# Altium schematic symbol library kmilo17pet-TI_StepDown.SchLib: 565 symbols (part 10 of 33)
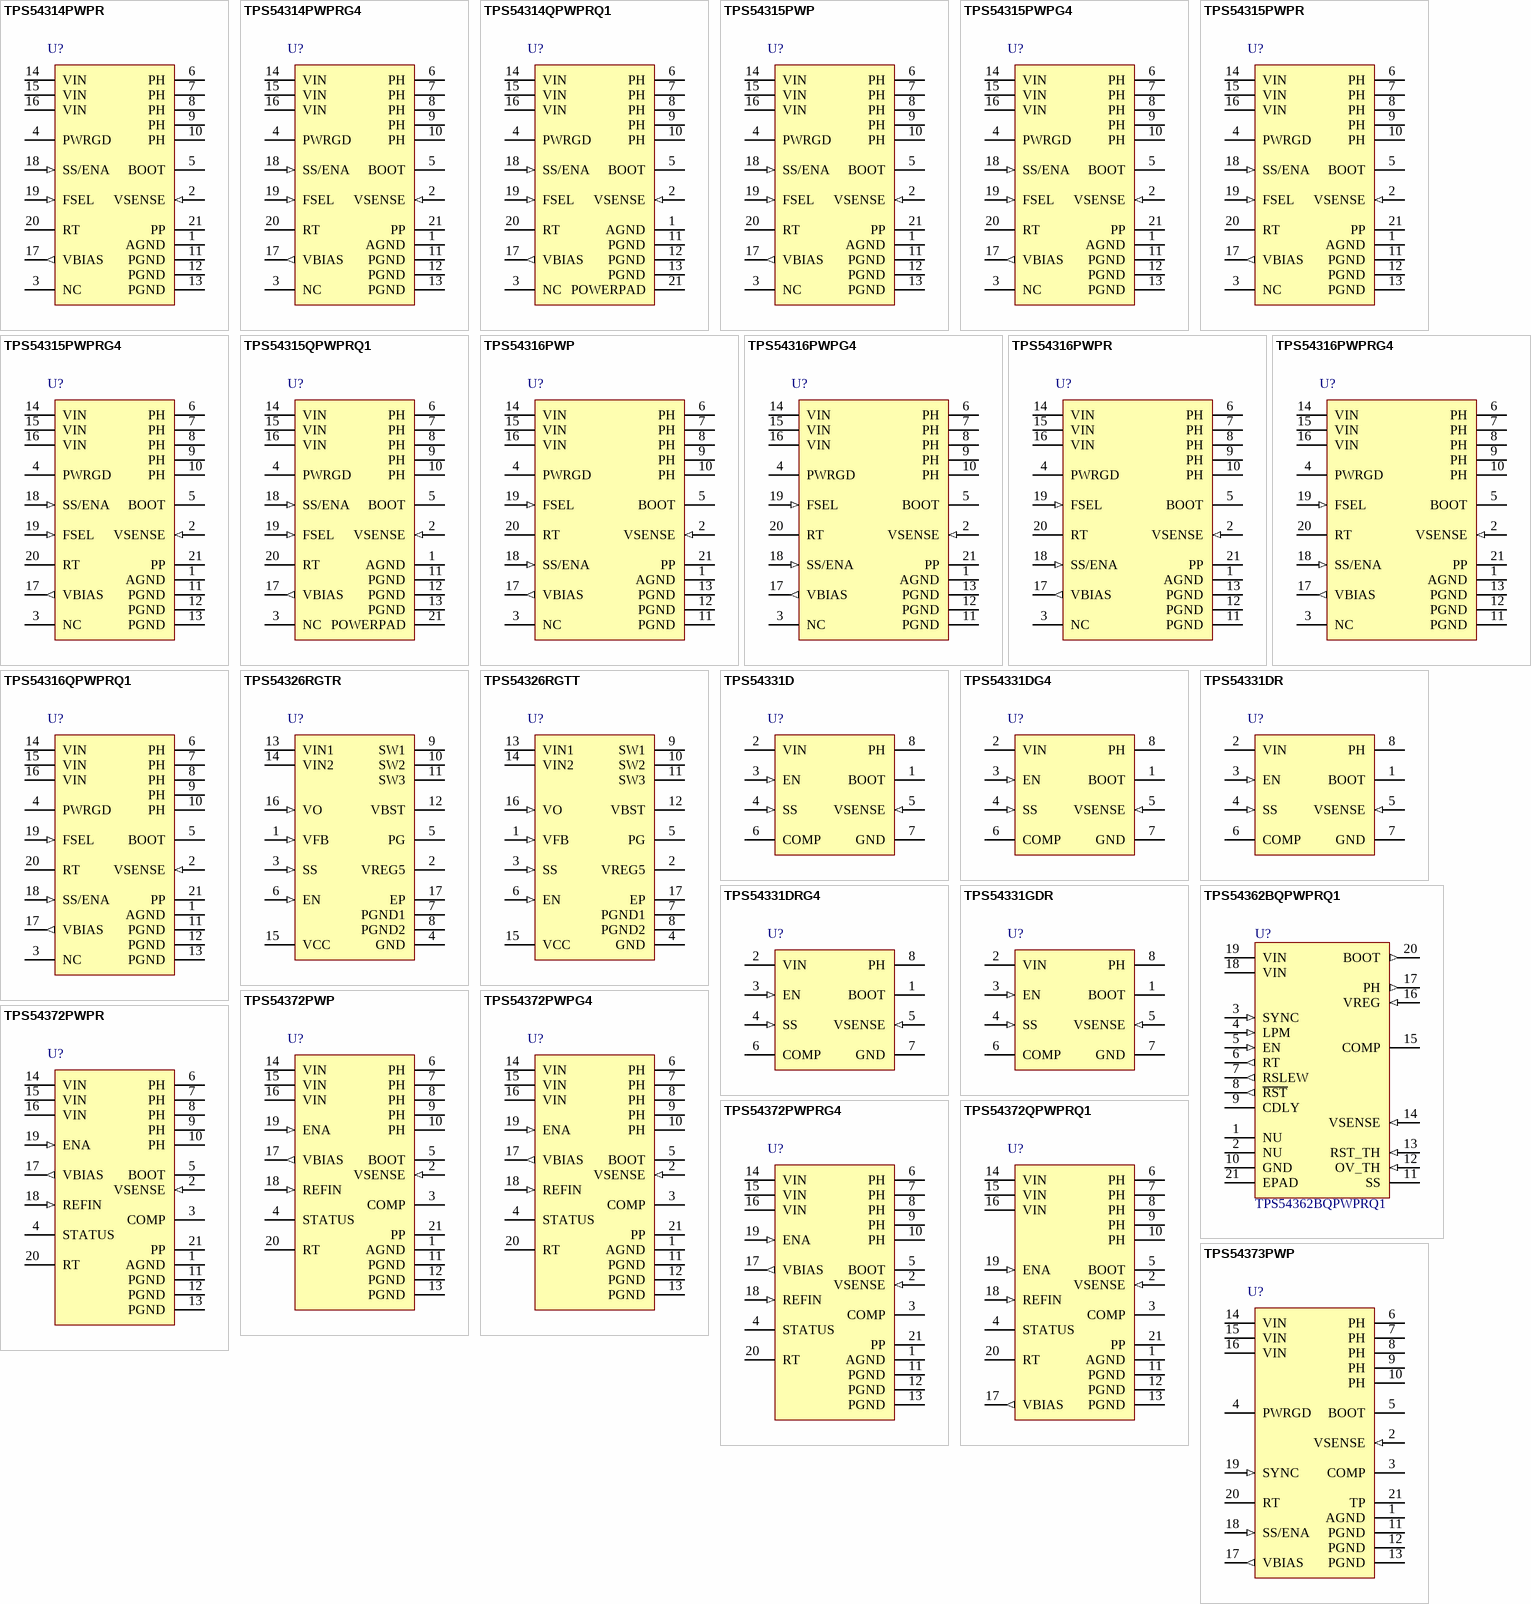
[diagram p28: symbols TPS54314PWPR to TPS54373PWP]

## TPS54326RGTR
designator U?
Buck Step Down Regulator with 4.5 to 18 V Input and 0.76 to 5.5 V Output, -40 to 85 degC, 16-Pin QFN (RGT), Green (RoHS & no Sb/Br); Manufacturer: Texas Instruments; PartNumber: TPS54326RGTR; Duty Cycle(Max)(%): 90; Iout(Max)(A): 3; Iq(Typ)(mA): 0.85; Rating: Catalog; Regulated Outputs(#): 1; SubFamily: Step-Down Regulator; Switch Current Limit(Typ)(A): 3.5; Synchronous Rectification: TRUE; Vin(Max)(V): 18; Vin(Min)(V): 4.5; Vout(Max)(V): 5.5; Vout(Min)(V): 0.76; DatasheetVersion: SLVSA13E; PackageVersion: revH, Oct-2011; PackageReference: RGT16-1700X1700TP; PackageDescription: 16-Pin Plastic Quad Flat No-Lead, 3 x 3 mm Body, 0.5 mm Pitch, 1.7 x 1.7 mm Exposed Pad; Supplier 1: Digi-Key; Supplier Part Number 1: 296-27586-2-ND; Eco-Plan: Green (RoHS & no Sb/Br); Topology: Buck; Mounting Technology: Surface Mount; Code_JEDEC: MO-220; ComponentLink1Description: Datasheet; ComponentLink1URL: http://www.ti.com/general/docs/lit/getliterature.tsp?genericPartNumber=TPS54326&fileType=pdf; ComponentLink2Description: Package Specification; ComponentLink2URL: http://www.ti.com/litv/pdf/mpqf119g; ComponentLink3Description: URL Link1; ComponentLink3URL: Samples URL:http://www.ti.com/product/tps54326#samples
footprint RGT16-1700X1700TP (QFN, 16-Leads, Body 3x3mm, Pitch 0.5mm, Thermal Pad 1.7x1.7mm, TI Recommended)
pins: 1 VFB (in) "Converter feedback input. Connect with feedback resistor divider.", 2 VREG5 (power) "5.5 V power supply output. A capacitor (typical 1uF) should be connected to GND.", 3 SS (in) "Soft-start control. A external capacitor should be connected to GND.", 4 GND (power) "Signal ground pin", 5 PG (oc) "Open drain power good output", 6 EN (in) "Enable control input", 7 PGND1 (power) "Ground returns for low-side MOSFET. Also serve as inputs of current comparators. Connect PGND and GND strongly together near the IC.", 8 PGND2 (power) "Ground returns for low-side MOSFET. Also serve as inputs of current comparators. Connect PGND and GND strongly together near the IC.", 9 SW1 (power) "Switch node connection between high-side NFET and low-side NFET. Also serve as inputs to current comparators.", 10 SW2 (power) "Switch node connection between high-side NFET and low-side NFET. Also serve as inputs to current comparators.", 11 SW3 (power) "Switch node connection between high-side NFET and low-side NFET. Also serve as inputs to current comparators.", 12 VBST "Supply input for high-side NFET gate driver (boost terminal). Connect capacitor from this pin to respective SW1, SW2 terminals. An internal PN diode is connected between VREG5 to VBST pin.", 13 VIN1 (power) "Power input and connected to high side NFET drain", 14 VIN2 (power) "Power input and connected to high side NFET drain", 15 VCC (power) "Supply input for 5 V internal linear regulator for the control circuitry", 16 VO (in) "Connect to output of converter. This pin is used for On-Time Adjustment.", 17 EP (power) "Thermal pad of the package. Must be soldered to achieve appropriate dissipation. Should be connected to PGND."

## TPS54326RGTT
designator U?
Buck Step Down Regulator with 4.5 to 18 V Input and 0.76 to 5.5 V Output, -40 to 85 degC, 16-Pin QFN (RGT), Green (RoHS & no Sb/Br); Manufacturer: Texas Instruments; PartNumber: TPS54326RGTT; Duty Cycle(Max)(%): 90; Iout(Max)(A): 3; Iq(Typ)(mA): 0.85; Rating: Catalog; Regulated Outputs(#): 1; SubFamily: Step-Down Regulator; Switch Current Limit(Typ)(A): 3.5; Synchronous Rectification: TRUE; Vin(Max)(V): 18; Vin(Min)(V): 4.5; Vout(Max)(V): 5.5; Vout(Min)(V): 0.76; DatasheetVersion: SLVSA13E; PackageVersion: revH, Oct-2011; PackageReference: RGT16-1700X1700TP; PackageDescription: 16-Pin Plastic Quad Flat No-Lead, 3 x 3 mm Body, 0.5 mm Pitch, 1.7 x 1.7 mm Exposed Pad; Supplier 1: Digi-Key; Supplier Part Number 1: TPS54326RGTT-ND; Eco-Plan: Green (RoHS & no Sb/Br); Topology: Buck; Mounting Technology: Surface Mount; Code_JEDEC: MO-220; ComponentLink1Description: Datasheet; ComponentLink1URL: http://www.ti.com/general/docs/lit/getliterature.tsp?genericPartNumber=TPS54326&fileType=pdf; ComponentLink2Description: Package Specification; ComponentLink2URL: http://www.ti.com/litv/pdf/mpqf119g; ComponentLink3Description: URL Link1; ComponentLink3URL: Samples URL:http://www.ti.com/product/tps54326#samples
footprint RGT16-1700X1700TP (QFN, 16-Leads, Body 3x3mm, Pitch 0.5mm, Thermal Pad 1.7x1.7mm, TI Recommended)
pins: 1 VFB (in) "Converter feedback input. Connect with feedback resistor divider.", 2 VREG5 (power) "5.5 V power supply output. A capacitor (typical 1uF) should be connected to GND.", 3 SS (in) "Soft-start control. A external capacitor should be connected to GND.", 4 GND (power) "Signal ground pin", 5 PG (oc) "Open drain power good output", 6 EN (in) "Enable control input", 7 PGND1 (power) "Ground returns for low-side MOSFET. Also serve as inputs of current comparators. Connect PGND and GND strongly together near the IC.", 8 PGND2 (power) "Ground returns for low-side MOSFET. Also serve as inputs of current comparators. Connect PGND and GND strongly together near the IC.", 9 SW1 (power) "Switch node connection between high-side NFET and low-side NFET. Also serve as inputs to current comparators.", 10 SW2 (power) "Switch node connection between high-side NFET and low-side NFET. Also serve as inputs to current comparators.", 11 SW3 (power) "Switch node connection between high-side NFET and low-side NFET. Also serve as inputs to current comparators.", 12 VBST "Supply input for high-side NFET gate driver (boost terminal). Connect capacitor from this pin to respective SW1, SW2 terminals. An internal PN diode is connected between VREG5 to VBST pin.", 13 VIN1 (power) "Power input and connected to high side NFET drain", 14 VIN2 (power) "Power input and connected to high side NFET drain", 15 VCC (power) "Supply input for 5 V internal linear regulator for the control circuitry", 16 VO (in) "Connect to output of converter. This pin is used for On-Time Adjustment.", 17 EP (power) "Thermal pad of the package. Must be soldered to achieve appropriate dissipation. Should be connected to PGND."

## TPS54331D
designator U?
Buck Step Down Regulator with 3.5 to 28 V Input and 0.8 to 25 V Output, -40 to 150 degC, 8-Pin SOIC (D), Green (RoHS & no Sb/Br); Manufacturer: Texas Instruments; PartNumber: TPS54331D; Duty Cycle(Max)(%): 90; Iout(Max)(A): 3; Iq(Typ)(mA): 0.11; Rating: Catalog; Regulated Outputs(#): 1; SubFamily: Step-Down Regulator; Switch Current Limit(Typ)(A): 3.5; Vin(Max)(V): 28; Vout(Max)(V): 25; Vout(Min)(V): 0.8; DatasheetVersion: SLVS839D; PackageVersion: revM, Jun-2011; PackageReference: D8; PackageDescription: 8-Pin Plastic Small Outline Integrated Circuit, 4.9 x 3.9 mm, Pitch 1.27 mm Pitch; Supplier 1: Digi-Key; Supplier Part Number 1: 296-23626-5-ND; Eco-Plan: Green (RoHS & no Sb/Br); Topology: Buck; Vin(Min)(V): 3.5; Mounting Technology: Surface Mount; Code_JEDEC: MS-012AA; ComponentLink1Description: Datasheet; ComponentLink1URL: http://www.ti.com/general/docs/lit/getliterature.tsp?genericPartNumber=TPS54331&fileType=pdf; ComponentLink2Description: Package Specification; ComponentLink2URL: http://www.ti.com/litv/pdf/msoi002j; ComponentLink3Description: URL Link1; ComponentLink3URL: Samples URL:http://www.ti.com/product/tps54331#samples
footprint D8_N (SOIC, 8-Leads, Body 4.9x3.9mm, Pitch 1.27mm, IPC Medium Density)
footprint D8_L (SOIC, 8-Leads, Body 4.9x3.9mm, Pitch 1.27mm, IPC High Density)
footprint D8_M (SOIC, 8-Leads, Body 4.9x3.9mm, Pitch 1.27mm, IPC Low Density)
pins: 1 BOOT "A 0.1 uF bootstrap capacitor is required between BOOT and PH. If the voltage on this capacitor falls below the minimum requirement, the high-side MOSFET is forced to switch off until the capacitor is refreshed", 2 VIN (power) "Input supply voltage, 3.5 V to 28 V.", 3 EN (in) "Enable pin. Pull below 1.25V to disable. Float to enable. Programming the input undervoltage lockout with two resistors is recommended.", 4 SS (in) "Slow start pin. An external capacitor connected to this pin sets the output rise time.", 5 VSENSE (in) "Inverting node of the gm error amplifier.", 6 COMP "Error amplifier output, and input to the PWM comparator. Connect frequency compensation components to this pin.", 7 GND (power) "Ground", 8 PH (power) "The source of the internal high-side power MOSFET"

## TPS54331DG4
designator U?
Buck Step Down Regulator with 3.5 to 28 V Input and 0.8 to 25 V Output, -40 to 150 degC, 8-Pin SOIC (D), Green (RoHS & no Sb/Br); Manufacturer: Texas Instruments; PartNumber: TPS54331DG4; Duty Cycle(Max)(%): 90; Iout(Max)(A): 3; Iq(Typ)(mA): 0.11; Rating: Catalog; Regulated Outputs(#): 1; SubFamily: Step-Down Regulator; Switch Current Limit(Typ)(A): 3.5; Vin(Max)(V): 28; Vout(Max)(V): 25; Vout(Min)(V): 0.8; DatasheetVersion: SLVS839D; PackageVersion: revM, Jun-2011; PackageReference: D8; PackageDescription: 8-Pin Plastic Small Outline Integrated Circuit, 4.9 x 3.9 mm, Pitch 1.27 mm Pitch; Supplier 1: Digi-Key; Supplier Part Number 1: TPS54331DG4-ND; Eco-Plan: Green (RoHS & no Sb/Br); Topology: Buck; Vin(Min)(V): 3.5; Mounting Technology: Surface Mount; Code_JEDEC: MS-012AA; ComponentLink1Description: Datasheet; ComponentLink1URL: http://www.ti.com/general/docs/lit/getliterature.tsp?genericPartNumber=TPS54331&fileType=pdf; ComponentLink2Description: Package Specification; ComponentLink2URL: http://www.ti.com/litv/pdf/msoi002j; ComponentLink3Description: URL Link1; ComponentLink3URL: Samples URL:http://www.ti.com/product/tps54331#samples
footprint D8_N (SOIC, 8-Leads, Body 4.9x3.9mm, Pitch 1.27mm, IPC Medium Density)
footprint D8_L (SOIC, 8-Leads, Body 4.9x3.9mm, Pitch 1.27mm, IPC High Density)
footprint D8_M (SOIC, 8-Leads, Body 4.9x3.9mm, Pitch 1.27mm, IPC Low Density)
pins: 1 BOOT "A 0.1 uF bootstrap capacitor is required between BOOT and PH. If the voltage on this capacitor falls below the minimum requirement, the high-side MOSFET is forced to switch off until the capacitor is refreshed", 2 VIN (power) "Input supply voltage, 3.5 V to 28 V.", 3 EN (in) "Enable pin. Pull below 1.25V to disable. Float to enable. Programming the input undervoltage lockout with two resistors is recommended.", 4 SS (in) "Slow start pin. An external capacitor connected to this pin sets the output rise time.", 5 VSENSE (in) "Inverting node of the gm error amplifier.", 6 COMP "Error amplifier output, and input to the PWM comparator. Connect frequency compensation components to this pin.", 7 GND (power) "Ground", 8 PH (power) "The source of the internal high-side power MOSFET"

## TPS54331DR
designator U?
Buck Step Down Regulator with 3.5 to 28 V Input and 0.8 to 25 V Output, -40 to 150 degC, 8-Pin SOIC (D), Green (RoHS & no Sb/Br); Manufacturer: Texas Instruments; PartNumber: TPS54331DR; Duty Cycle(Max)(%): 90; Iout(Max)(A): 3; Iq(Typ)(mA): 0.11; Rating: Catalog; Regulated Outputs(#): 1; SubFamily: Step-Down Regulator; Switch Current Limit(Typ)(A): 3.5; Vin(Max)(V): 28; Vout(Max)(V): 25; Vout(Min)(V): 0.8; DatasheetVersion: SLVS839D; PackageVersion: revM, Jun-2011; PackageReference: D8; PackageDescription: 8-Pin Plastic Small Outline Integrated Circuit, 4.9 x 3.9 mm, Pitch 1.27 mm Pitch; Supplier 1: Digi-Key; Supplier Part Number 1: 296-26991-2-ND; Eco-Plan: Green (RoHS & no Sb/Br); Topology: Buck; Vin(Min)(V): 3.5; Mounting Technology: Surface Mount; Code_JEDEC: MS-012AA; ComponentLink1Description: Datasheet; ComponentLink1URL: http://www.ti.com/general/docs/lit/getliterature.tsp?genericPartNumber=TPS54331&fileType=pdf; ComponentLink2Description: Package Specification; ComponentLink2URL: http://www.ti.com/litv/pdf/msoi002j; ComponentLink3Description: URL Link1; ComponentLink3URL: Samples URL:http://www.ti.com/product/tps54331#samples
footprint D8_N (SOIC, 8-Leads, Body 4.9x3.9mm, Pitch 1.27mm, IPC Medium Density)
footprint D8_L (SOIC, 8-Leads, Body 4.9x3.9mm, Pitch 1.27mm, IPC High Density)
footprint D8_M (SOIC, 8-Leads, Body 4.9x3.9mm, Pitch 1.27mm, IPC Low Density)
pins: 1 BOOT "A 0.1 uF bootstrap capacitor is required between BOOT and PH. If the voltage on this capacitor falls below the minimum requirement, the high-side MOSFET is forced to switch off until the capacitor is refreshed", 2 VIN (power) "Input supply voltage, 3.5 V to 28 V.", 3 EN (in) "Enable pin. Pull below 1.25V to disable. Float to enable. Programming the input undervoltage lockout with two resistors is recommended.", 4 SS (in) "Slow start pin. An external capacitor connected to this pin sets the output rise time.", 5 VSENSE (in) "Inverting node of the gm error amplifier.", 6 COMP "Error amplifier output, and input to the PWM comparator. Connect frequency compensation components to this pin.", 7 GND (power) "Ground", 8 PH (power) "The source of the internal high-side power MOSFET"

## TPS54331DRG4
designator U?
Buck Step Down Regulator with 3.5 to 28 V Input and 0.8 to 25 V Output, -40 to 150 degC, 8-Pin SOIC (D), Green (RoHS & no Sb/Br); Manufacturer: Texas Instruments; PartNumber: TPS54331DRG4; Duty Cycle(Max)(%): 90; Iout(Max)(A): 3; Iq(Typ)(mA): 0.11; Rating: Catalog; Regulated Outputs(#): 1; SubFamily: Step-Down Regulator; Switch Current Limit(Typ)(A): 3.5; Vin(Max)(V): 28; Vout(Max)(V): 25; Vout(Min)(V): 0.8; DatasheetVersion: SLVS839D; PackageVersion: revM, Jun-2011; PackageReference: D8; PackageDescription: 8-Pin Plastic Small Outline Integrated Circuit, 4.9 x 3.9 mm, Pitch 1.27 mm Pitch; Supplier 1: Digi-Key; Supplier Part Number 1: TPS54331DRG4-ND; Eco-Plan: Green (RoHS & no Sb/Br); Topology: Buck; Vin(Min)(V): 3.5; Mounting Technology: Surface Mount; Code_JEDEC: MS-012AA; ComponentLink1Description: Datasheet; ComponentLink1URL: http://www.ti.com/general/docs/lit/getliterature.tsp?genericPartNumber=TPS54331&fileType=pdf; ComponentLink2Description: Package Specification; ComponentLink2URL: http://www.ti.com/litv/pdf/msoi002j; ComponentLink3Description: URL Link1; ComponentLink3URL: Samples URL:http://www.ti.com/product/tps54331#samples
footprint D8_N (SOIC, 8-Leads, Body 4.9x3.9mm, Pitch 1.27mm, IPC Medium Density)
footprint D8_L (SOIC, 8-Leads, Body 4.9x3.9mm, Pitch 1.27mm, IPC High Density)
footprint D8_M (SOIC, 8-Leads, Body 4.9x3.9mm, Pitch 1.27mm, IPC Low Density)
pins: 1 BOOT "A 0.1 uF bootstrap capacitor is required between BOOT and PH. If the voltage on this capacitor falls below the minimum requirement, the high-side MOSFET is forced to switch off until the capacitor is refreshed", 2 VIN (power) "Input supply voltage, 3.5 V to 28 V.", 3 EN (in) "Enable pin. Pull below 1.25V to disable. Float to enable. Programming the input undervoltage lockout with two resistors is recommended.", 4 SS (in) "Slow start pin. An external capacitor connected to this pin sets the output rise time.", 5 VSENSE (in) "Inverting node of the gm error amplifier.", 6 COMP "Error amplifier output, and input to the PWM comparator. Connect frequency compensation components to this pin.", 7 GND (power) "Ground", 8 PH (power) "The source of the internal high-side power MOSFET"

## TPS54331GDR
designator U?
Buck Step Down Regulator with 3.5 to 28 V Input and 0.8 to 25 V Output, 8-Pin SOIC (D), Green (RoHS & no Sb/Br); Manufacturer: Texas Instruments; PartNumber: TPS54331GDR; Duty Cycle(Max)(%): 90; Iout(Max)(A): 3; Iq(Typ)(mA): 0.11; Rating: Catalog; Regulated Outputs(#): 1; SubFamily: Step-Down Regulator; Switch Current Limit(Typ)(A): 3.5; Vin(Max)(V): 28; Vout(Max)(V): 25; Vout(Min)(V): 0.8; DatasheetVersion: SLVS839D; PackageVersion: revM, Jun-2011; PackageReference: D8; PackageDescription: 8-Pin Plastic Small Outline Integrated Circuit, 4.9 x 3.9 mm, Pitch 1.27 mm Pitch; Supplier 1: Digi-Key; Supplier Part Number 1: TPS54331GDR-ND; Eco-Plan: Green (RoHS & no Sb/Br); Topology: Buck; Vin(Min)(V): 3.5; Mounting Technology: Surface Mount; Code_JEDEC: MS-012AA; ComponentLink1Description: Datasheet; ComponentLink1URL: http://www.ti.com/general/docs/lit/getliterature.tsp?genericPartNumber=TPS54331&fileType=pdf; ComponentLink2Description: Package Specification; ComponentLink2URL: http://www.ti.com/litv/pdf/msoi002j; ComponentLink3Description: URL Link1; ComponentLink3URL: Samples URL:http://www.ti.com/product/tps54331#samples
footprint D8_N (SOIC, 8-Leads, Body 4.9x3.9mm, Pitch 1.27mm, IPC Medium Density)
footprint D8_L (SOIC, 8-Leads, Body 4.9x3.9mm, Pitch 1.27mm, IPC High Density)
footprint D8_M (SOIC, 8-Leads, Body 4.9x3.9mm, Pitch 1.27mm, IPC Low Density)
pins: 1 BOOT "A 0.1 uF bootstrap capacitor is required between BOOT and PH. If the voltage on this capacitor falls below the minimum requirement, the high-side MOSFET is forced to switch off until the capacitor is refreshed", 2 VIN (power) "Input supply voltage, 3.5 V to 28 V.", 3 EN (in) "Enable pin. Pull below 1.25V to disable. Float to enable. Programming the input undervoltage lockout with two resistors is recommended.", 4 SS (in) "Slow start pin. An external capacitor connected to this pin sets the output rise time.", 5 VSENSE (in) "Inverting node of the gm error amplifier.", 6 COMP "Error amplifier output, and input to the PWM comparator. Connect frequency compensation components to this pin.", 7 GND (power) "Ground", 8 PH (power) "The source of the internal high-side power MOSFET"

## TPS54362BQPWPRQ1
designator U?
IC REG BUCK ADJ 3A 20HTSSOP; Manufacturer: Texas Instruments; Function: Step-Down; Output Configuration: Positive; Output Type: Adjustable; Number of Outputs: 1; Voltage - Input (Min): 3.6V; Voltage - Input (Max): 48V; Voltage - Output (Min/Fixed): 0.9V; Voltage - Output (Max): 18V; Frequency - Switching: 200kHz ~ 2.2MHz; Synchronous Rectifier: No; Supplier 1: Digi-Key; Manufacturer Part Number: TPS54362BQPWPRQ1; RoHS: RoHS Compliant; Category: Integrated Circuits (ICs); Stock 1: 2616; Pricing 1: 1=4.86, 10=4.368, 100=3.5791, 500=3.04686, 1000=2.56964 (USD); Packaging: Cut Tape (CT); Part Status: Active; Topology: Buck; Current - Output: 3A; Operating Temperature: -40°C ~ 150°C (TJ); Mounting Type: Surface Mount; Package / Case: 20-PowerTSSOP (0.173", 4.40mm Width); Supplier Device Package: 20-HTSSOP; ComponentLink1URL: http://www.ti.com/lit/ds/symlink/tps54362-q1.pdf; ComponentLink1Description: http://www.ti.com/lit/ds/symlink/tps54362-q1.pdf; Value: TPS54362BQPWPRQ1; Supplier Part Number 1: 296-40795-1-ND
footprint HTSSOP20 (TSOP, 20-Leads, Body 6.50x4.40mm, Pitch 0.65mm, Thermal Pad 3.20x2.45mm, IPC High Density)
pins: 1 NU, 2 NU, 3 SYNC (in), 4 LPM (in), 5 EN (in), 6 RT (out), 7 RSLEW (out), 8 ~{RST} (out), 9 CDLY, 10 GND, 11 SS, 12 OV_TH (in), 13 RST_TH (in), 14 VSENSE (in), 15 COMP, 16 VREG (in), 17 PH (out), 18 VIN, 19 VIN, 20 BOOT (out), 21 EPAD

## TPS54372PWP
designator U?
Buck Regulator with 3 to 6 V Input and 0.2 to 4.5 V Output, -40 to 85 degC, 20-Pin HTSSOP (PWP), Green (RoHS & no Sb/Br); Manufacturer: Texas Instruments; PartNumber: TPS54372PWP; Duty Cycle(Max)(%): 90; Iout(Max)(A): 3; Iq(Typ)(mA): 6.2; Rating: Catalog; Regulated Outputs(#): 1; SubFamily: Step-Down Regulator; Switch Current Limit(Typ)(A): 4; Synchronous Rectification: TRUE; Vin(Max)(V): 6; Vout(Max)(V): 4.5; Vout(Min)(V): 0.2; DatasheetVersion: SLVS430D; PackageVersion: revI, May-2011; PackageReference: PWP20-3005X2005TP; PackageDescription: 20-Pin PowerPAD Plastic Small Outline 6.5 x 4.4 mm Body ,0.65 mm Pitch, Exposed Pad; Supplier 1: Digi-Key; Supplier Part Number 1: 296-13055-5-ND; Eco-Plan: Green (RoHS & no Sb/Br); Topology: Buck; Vin(Min)(V): 3; Mounting Technology: Surface Mount; Code_JEDEC: MO-153; ComponentLink1Description: Datasheet; ComponentLink1URL: http://www.ti.com/general/docs/lit/getliterature.tsp?genericPartNumber=TPS54372&fileType=pdf; ComponentLink2Description: Package Specification; ComponentLink2URL: http://www.ti.com/lit/ml/mhts001g/mhts001g.pdf; ComponentLink3Description: URL Link1; ComponentLink3URL: Samples URL:http://www.ti.com/product/tps54372#samples
footprint PWP20-3005X2005TP_N (TSOP, 20-Leads, Body 6.5x4.4mm, Pitch 0.65mm, Thermal Pad 3.7x2.4 mm, IPC Medium Density)
footprint PWP20-3005X2005TP_L (TSOP, 20-Leads, Body 6.5x4.4mm, Pitch 0.65mm, Thermal Pad 3.7x2.4 mm, IPC High Density)
footprint PWP20-3005X2005TP_M (TSOP, 20-Leads, Body 6.5x4.4mm, Pitch 0.65mm, Thermal Pad 3.7x2.4 mm, IPC Low Density)
pins: 1 AGND (power) "Analog ground. Return for compensation network/output divider, slow-start capacitor, VBIAS capacitor, and RT resistor. Connect PowerPAD connection to AGND.", 2 VSENSE (in) "Error amplifier inverting input. Connect to output voltage compensation network/output divider.", 3 COMP "Error amplifier output. Connect frequency compensation network from COMP to VSENSE", 4 STATUS (hiz) "Open-drain output. Asserted low when VIN < UVLO, VBIAS and internal reference are not settled or the internal shutdown signal is active. Otherwise STATUS is high.", 5 BOOT "Bootstrap output. 0.022-uF to 0.1-uF low-ESR capacitor connected from BOOT to PH generates floating drive for the high-side FET driver.", 6 PH (power) "Phase input/output. Junction of the internal high-side and low-side power MOSFETs, and output inductor.", 7 PH (power) "Phase input/output. Junction of the internal high-side and low-side power MOSFETs, and output inductor.", 8 PH (power) "Phase input/output. Junction of the internal high-side and low-side power MOSFETs, and output inductor.", 9 PH (power) "Phase input/output. Junction of the internal high-side and low-side power MOSFETs, and output inductor.", 10 PH (power) "Phase input/output. Junction of the internal high-side and low-side power MOSFETs, and output inductor.", 11 PGND (power) "Power ground. High current return for the low-side driver and power MOSFET. Connect PGND with large copper areas to the input and output supply returns, and negative terminals of the input and output capacitors. A (See Datasheet)", 12 PGND (power) "Power ground. High current return for the low-side driver and power MOSFET. Connect PGND with large copper areas to the input and output supply returns, and negative terminals of the input and output capacitors. A (See Datasheet)", 13 PGND (power) "Power ground. High current return for the low-side driver and power MOSFET. Connect PGND with large copper areas to the input and output supply returns, and negative terminals of the input and output capacitors. A (See Datasheet)", 14 VIN (power) "Input supply for the power MOSFET switches and internal bias regulator. Bypass VIN pins to PGND pins close to device package with a high-quality, low-ESR 10-uF ceramic capacitor.", 15 VIN (power) "Input supply for the power MOSFET switches and internal bias regulator. Bypass VIN pins to PGND pins close to device package with a high-quality, low-ESR 10-uF ceramic capacitor.", 16 VIN (power) "Input supply for the power MOSFET switches and internal bias regulator. Bypass VIN pins to PGND pins close to device package with a high-quality, low-ESR 10-uF ceramic capacitor.", 17 VBIAS (out) "Internal bias regulator output. Supplies regulated voltage to internal circuitry. Bypass VBIAS pin to AGND pin with a high quality, low-ESR 0.1-uF to 1.0-uF ceramic capacitor.", 18 REFIN (in) "External reference input. High impedance input to slow-start and error amplifier circuits.", 19 ENA (in) "Enable input. Logic high enables oscillator, PWM control and MOSFET driver circuits. Logic low disables operation and places device in a low quiescent current state.", 20 RT "Frequency setting resistor input. Connect a resistor from RT to AGND to set the switching frequency, fs.", 21 PP (power) "Exposed Thermal Pad"

## TPS54372PWPG4
designator U?
Buck Regulator with 3 to 6 V Input and 0.2 to 4.5 V Output, -40 to 85 degC, 20-Pin HTSSOP (PWP), Green (RoHS & no Sb/Br); Manufacturer: Texas Instruments; PartNumber: TPS54372PWPG4; Duty Cycle(Max)(%): 90; Iout(Max)(A): 3; Iq(Typ)(mA): 6.2; Rating: Catalog; Regulated Outputs(#): 1; SubFamily: Step-Down Regulator; Switch Current Limit(Typ)(A): 4; Synchronous Rectification: TRUE; Vin(Max)(V): 6; Vout(Max)(V): 4.5; Vout(Min)(V): 0.2; DatasheetVersion: SLVS430D; PackageVersion: revI, May-2011; PackageReference: PWP20-3005X2005TP; PackageDescription: 20-Pin PowerPAD Plastic Small Outline 6.5 x 4.4 mm Body ,0.65 mm Pitch, Exposed Pad; Supplier 1: Digi-Key; Supplier Part Number 1: TPS54372PWPG4-ND; Eco-Plan: Green (RoHS & no Sb/Br); Topology: Buck; Vin(Min)(V): 3; Mounting Technology: Surface Mount; Code_JEDEC: MO-153; ComponentLink1Description: Datasheet; ComponentLink1URL: http://www.ti.com/general/docs/lit/getliterature.tsp?genericPartNumber=TPS54372&fileType=pdf; ComponentLink2Description: Package Specification; ComponentLink2URL: http://www.ti.com/lit/ml/mhts001g/mhts001g.pdf; ComponentLink3Description: URL Link1; ComponentLink3URL: Samples URL:http://www.ti.com/product/tps54372#samples
footprint PWP20-3005X2005TP_N (TSOP, 20-Leads, Body 6.5x4.4mm, Pitch 0.65mm, Thermal Pad 3.7x2.4 mm, IPC Medium Density)
footprint PWP20-3005X2005TP_L (TSOP, 20-Leads, Body 6.5x4.4mm, Pitch 0.65mm, Thermal Pad 3.7x2.4 mm, IPC High Density)
footprint PWP20-3005X2005TP_M (TSOP, 20-Leads, Body 6.5x4.4mm, Pitch 0.65mm, Thermal Pad 3.7x2.4 mm, IPC Low Density)
pins: 1 AGND (power) "Analog ground. Return for compensation network/output divider, slow-start capacitor, VBIAS capacitor, and RT resistor. Connect PowerPAD connection to AGND.", 2 VSENSE (in) "Error amplifier inverting input. Connect to output voltage compensation network/output divider.", 3 COMP "Error amplifier output. Connect frequency compensation network from COMP to VSENSE", 4 STATUS (hiz) "Open-drain output. Asserted low when VIN < UVLO, VBIAS and internal reference are not settled or the internal shutdown signal is active. Otherwise STATUS is high.", 5 BOOT "Bootstrap output. 0.022-uF to 0.1-uF low-ESR capacitor connected from BOOT to PH generates floating drive for the high-side FET driver.", 6 PH (power) "Phase input/output. Junction of the internal high-side and low-side power MOSFETs, and output inductor.", 7 PH (power) "Phase input/output. Junction of the internal high-side and low-side power MOSFETs, and output inductor.", 8 PH (power) "Phase input/output. Junction of the internal high-side and low-side power MOSFETs, and output inductor.", 9 PH (power) "Phase input/output. Junction of the internal high-side and low-side power MOSFETs, and output inductor.", 10 PH (power) "Phase input/output. Junction of the internal high-side and low-side power MOSFETs, and output inductor.", 11 PGND (power) "Power ground. High current return for the low-side driver and power MOSFET. Connect PGND with large copper areas to the input and output supply returns, and negative terminals of the input and output capacitors. A (See Datasheet)", 12 PGND (power) "Power ground. High current return for the low-side driver and power MOSFET. Connect PGND with large copper areas to the input and output supply returns, and negative terminals of the input and output capacitors. A (See Datasheet)", 13 PGND (power) "Power ground. High current return for the low-side driver and power MOSFET. Connect PGND with large copper areas to the input and output supply returns, and negative terminals of the input and output capacitors. A (See Datasheet)", 14 VIN (power) "Input supply for the power MOSFET switches and internal bias regulator. Bypass VIN pins to PGND pins close to device package with a high-quality, low-ESR 10-uF ceramic capacitor.", 15 VIN (power) "Input supply for the power MOSFET switches and internal bias regulator. Bypass VIN pins to PGND pins close to device package with a high-quality, low-ESR 10-uF ceramic capacitor.", 16 VIN (power) "Input supply for the power MOSFET switches and internal bias regulator. Bypass VIN pins to PGND pins close to device package with a high-quality, low-ESR 10-uF ceramic capacitor.", 17 VBIAS (out) "Internal bias regulator output. Supplies regulated voltage to internal circuitry. Bypass VBIAS pin to AGND pin with a high quality, low-ESR 0.1-uF to 1.0-uF ceramic capacitor.", 18 REFIN (in) "External reference input. High impedance input to slow-start and error amplifier circuits.", 19 ENA (in) "Enable input. Logic high enables oscillator, PWM control and MOSFET driver circuits. Logic low disables operation and places device in a low quiescent current state.", 20 RT "Frequency setting resistor input. Connect a resistor from RT to AGND to set the switching frequency, fs.", 21 PP (power) "Exposed Thermal Pad"

## TPS54372PWPR
designator U?
Buck Regulator with 3 to 6 V Input and 0.2 to 4.5 V Output, -40 to 85 degC, 20-Pin HTSSOP (PWP), Green (RoHS & no Sb/Br); Manufacturer: Texas Instruments; PartNumber: TPS54372PWPR; Duty Cycle(Max)(%): 90; Iout(Max)(A): 3; Iq(Typ)(mA): 6.2; Rating: Catalog; Regulated Outputs(#): 1; SubFamily: Step-Down Regulator; Switch Current Limit(Typ)(A): 4; Synchronous Rectification: TRUE; Vin(Max)(V): 6; Vout(Max)(V): 4.5; Vout(Min)(V): 0.2; DatasheetVersion: SLVS430D; PackageVersion: revI, May-2011; PackageReference: PWP20-3005X2005TP; PackageDescription: 20-Pin PowerPAD Plastic Small Outline 6.5 x 4.4 mm Body ,0.65 mm Pitch, Exposed Pad; Supplier 1: Digi-Key; Supplier Part Number 1: 296-26993-2-ND; Eco-Plan: Green (RoHS & no Sb/Br); Topology: Buck; Vin(Min)(V): 3; Mounting Technology: Surface Mount; Code_JEDEC: MO-153; ComponentLink1Description: Datasheet; ComponentLink1URL: http://www.ti.com/general/docs/lit/getliterature.tsp?genericPartNumber=TPS54372&fileType=pdf; ComponentLink2Description: Package Specification; ComponentLink2URL: http://www.ti.com/lit/ml/mhts001g/mhts001g.pdf; ComponentLink3Description: URL Link1; ComponentLink3URL: Samples URL:http://www.ti.com/product/tps54372#samples
footprint PWP20-3005X2005TP_N (TSOP, 20-Leads, Body 6.5x4.4mm, Pitch 0.65mm, Thermal Pad 3.7x2.4 mm, IPC Medium Density)
footprint PWP20-3005X2005TP_L (TSOP, 20-Leads, Body 6.5x4.4mm, Pitch 0.65mm, Thermal Pad 3.7x2.4 mm, IPC High Density)
footprint PWP20-3005X2005TP_M (TSOP, 20-Leads, Body 6.5x4.4mm, Pitch 0.65mm, Thermal Pad 3.7x2.4 mm, IPC Low Density)
pins: 1 AGND (power) "Analog ground. Return for compensation network/output divider, slow-start capacitor, VBIAS capacitor, and RT resistor. Connect PowerPAD connection to AGND.", 2 VSENSE (in) "Error amplifier inverting input. Connect to output voltage compensation network/output divider.", 3 COMP "Error amplifier output. Connect frequency compensation network from COMP to VSENSE", 4 STATUS (hiz) "Open-drain output. Asserted low when VIN < UVLO, VBIAS and internal reference are not settled or the internal shutdown signal is active. Otherwise STATUS is high.", 5 BOOT "Bootstrap output. 0.022-uF to 0.1-uF low-ESR capacitor connected from BOOT to PH generates floating drive for the high-side FET driver.", 6 PH (power) "Phase input/output. Junction of the internal high-side and low-side power MOSFETs, and output inductor.", 7 PH (power) "Phase input/output. Junction of the internal high-side and low-side power MOSFETs, and output inductor.", 8 PH (power) "Phase input/output. Junction of the internal high-side and low-side power MOSFETs, and output inductor.", 9 PH (power) "Phase input/output. Junction of the internal high-side and low-side power MOSFETs, and output inductor.", 10 PH (power) "Phase input/output. Junction of the internal high-side and low-side power MOSFETs, and output inductor.", 11 PGND (power) "Power ground. High current return for the low-side driver and power MOSFET. Connect PGND with large copper areas to the input and output supply returns, and negative terminals of the input and output capacitors. A (See Datasheet)", 12 PGND (power) "Power ground. High current return for the low-side driver and power MOSFET. Connect PGND with large copper areas to the input and output supply returns, and negative terminals of the input and output capacitors. A (See Datasheet)", 13 PGND (power) "Power ground. High current return for the low-side driver and power MOSFET. Connect PGND with large copper areas to the input and output supply returns, and negative terminals of the input and output capacitors. A (See Datasheet)", 14 VIN (power) "Input supply for the power MOSFET switches and internal bias regulator. Bypass VIN pins to PGND pins close to device package with a high-quality, low-ESR 10-uF ceramic capacitor.", 15 VIN (power) "Input supply for the power MOSFET switches and internal bias regulator. Bypass VIN pins to PGND pins close to device package with a high-quality, low-ESR 10-uF ceramic capacitor.", 16 VIN (power) "Input supply for the power MOSFET switches and internal bias regulator. Bypass VIN pins to PGND pins close to device package with a high-quality, low-ESR 10-uF ceramic capacitor.", 17 VBIAS (out) "Internal bias regulator output. Supplies regulated voltage to internal circuitry. Bypass VBIAS pin to AGND pin with a high quality, low-ESR 0.1-uF to 1.0-uF ceramic capacitor.", 18 REFIN (in) "External reference input. High impedance input to slow-start and error amplifier circuits.", 19 ENA (in) "Enable input. Logic high enables oscillator, PWM control and MOSFET driver circuits. Logic low disables operation and places device in a low quiescent current state.", 20 RT "Frequency setting resistor input. Connect a resistor from RT to AGND to set the switching frequency, fs.", 21 PP (power) "Exposed Thermal Pad"

## TPS54372PWPRG4
designator U?
Buck Regulator with 3 to 6 V Input and 0.2 to 4.5 V Output, -40 to 85 degC, 20-Pin HTSSOP (PWP), Green (RoHS & no Sb/Br); Manufacturer: Texas Instruments; PartNumber: TPS54372PWPRG4; Duty Cycle(Max)(%): 90; Iout(Max)(A): 3; Iq(Typ)(mA): 6.2; Rating: Catalog; Regulated Outputs(#): 1; SubFamily: Step-Down Regulator; Switch Current Limit(Typ)(A): 4; Synchronous Rectification: TRUE; Vin(Max)(V): 6; Vout(Max)(V): 4.5; Vout(Min)(V): 0.2; DatasheetVersion: SLVS430D; PackageVersion: revI, May-2011; PackageReference: PWP20-3005X2005TP; PackageDescription: 20-Pin PowerPAD Plastic Small Outline 6.5 x 4.4 mm Body ,0.65 mm Pitch, Exposed Pad; Supplier 1: Digi-Key; Supplier Part Number 1: TPS54372PWPRG4-ND; Eco-Plan: Green (RoHS & no Sb/Br); Topology: Buck; Vin(Min)(V): 3; Mounting Technology: Surface Mount; Code_JEDEC: MO-153; ComponentLink1Description: Datasheet; ComponentLink1URL: http://www.ti.com/general/docs/lit/getliterature.tsp?genericPartNumber=TPS54372&fileType=pdf; ComponentLink2Description: Package Specification; ComponentLink2URL: http://www.ti.com/lit/ml/mhts001g/mhts001g.pdf; ComponentLink3Description: URL Link1; ComponentLink3URL: Samples URL:http://www.ti.com/product/tps54611#samples
footprint PWP20-3005X2005TP_N (TSOP, 20-Leads, Body 6.5x4.4mm, Pitch 0.65mm, Thermal Pad 3.7x2.4 mm, IPC Medium Density)
footprint PWP20-3005X2005TP_L (TSOP, 20-Leads, Body 6.5x4.4mm, Pitch 0.65mm, Thermal Pad 3.7x2.4 mm, IPC High Density)
footprint PWP20-3005X2005TP_M (TSOP, 20-Leads, Body 6.5x4.4mm, Pitch 0.65mm, Thermal Pad 3.7x2.4 mm, IPC Low Density)
pins: 1 AGND (power) "Analog ground. Return for compensation network/output divider, slow-start capacitor, VBIAS capacitor, and RT resistor. Connect PowerPAD connection to AGND.", 2 VSENSE (in) "Error amplifier inverting input. Connect to output voltage compensation network/output divider.", 3 COMP "Error amplifier output. Connect frequency compensation network from COMP to VSENSE", 4 STATUS (hiz) "Open-drain output. Asserted low when VIN < UVLO, VBIAS and internal reference are not settled or the internal shutdown signal is active. Otherwise STATUS is high.", 5 BOOT "Bootstrap output. 0.022-uF to 0.1-uF low-ESR capacitor connected from BOOT to PH generates floating drive for the high-side FET driver.", 6 PH (power) "Phase input/output. Junction of the internal high-side and low-side power MOSFETs, and output inductor.", 7 PH (power) "Phase input/output. Junction of the internal high-side and low-side power MOSFETs, and output inductor.", 8 PH (power) "Phase input/output. Junction of the internal high-side and low-side power MOSFETs, and output inductor.", 9 PH (power) "Phase input/output. Junction of the internal high-side and low-side power MOSFETs, and output inductor.", 10 PH (power) "Phase input/output. Junction of the internal high-side and low-side power MOSFETs, and output inductor.", 11 PGND (power) "Power ground. High current return for the low-side driver and power MOSFET. Connect PGND with large copper areas to the input and output supply returns, and negative terminals of the input and output capacitors. A (See Datasheet)", 12 PGND (power) "Power ground. High current return for the low-side driver and power MOSFET. Connect PGND with large copper areas to the input and output supply returns, and negative terminals of the input and output capacitors. A (See Datasheet)", 13 PGND (power) "Power ground. High current return for the low-side driver and power MOSFET. Connect PGND with large copper areas to the input and output supply returns, and negative terminals of the input and output capacitors. A (See Datasheet)", 14 VIN (power) "Input supply for the power MOSFET switches and internal bias regulator. Bypass VIN pins to PGND pins close to device package with a high-quality, low-ESR 10-uF ceramic capacitor.", 15 VIN (power) "Input supply for the power MOSFET switches and internal bias regulator. Bypass VIN pins to PGND pins close to device package with a high-quality, low-ESR 10-uF ceramic capacitor.", 16 VIN (power) "Input supply for the power MOSFET switches and internal bias regulator. Bypass VIN pins to PGND pins close to device package with a high-quality, low-ESR 10-uF ceramic capacitor.", 17 VBIAS (out) "Internal bias regulator output. Supplies regulated voltage to internal circuitry. Bypass VBIAS pin to AGND pin with a high quality, low-ESR 0.1-uF to 1.0-uF ceramic capacitor.", 18 REFIN (in) "External reference input. High impedance input to slow-start and error amplifier circuits.", 19 ENA (in) "Enable input. Logic high enables oscillator, PWM control and MOSFET driver circuits. Logic low disables operation and places device in a low quiescent current state.", 20 RT "Frequency setting resistor input. Connect a resistor from RT to AGND to set the switching frequency, fs.", 21 PP (power) "Exposed Thermal Pad"

## TPS54372QPWPRQ1
designator U?
Buck Regulator with 3 to 6 V Input and 0.2 to 4.5 V Output, -40 to 125 degC, 20-Pin HTSSOP (PWP), Green (RoHS & no Sb/Br); Manufacturer: Texas Instruments; PartNumber: TPS54372QPWPRQ1; Duty Cycle(Max)(%): 90; Iout(Max)(A): 3; Iq(Typ)(mA): 8.4; Preset Vout(V): 0.9; Rating: Automotive; Regulated Outputs(#): 1; SubFamily: Step-Down Regulator; Switch Current Limit(Typ)(A): 4; Synchronous Rectification: TRUE; Vin(Max)(V): 6; Vout(Max)(V): 4.5; Vout(Min)(V): 0.2; DatasheetVersion: SGLS267E; PackageVersion: revI, May-2011; PackageReference: PWP20-3005X2005TP; PackageDescription: 20-Pin PowerPAD Plastic Small Outline 6.5 x 4.4 mm Body ,0.65 mm Pitch, Exposed Pad; Supplier 1: Digi-Key; Supplier Part Number 1: 296-24341-2-ND; Eco-Plan: Green (RoHS & no Sb/Br); Topology: Buck; Vin(Min)(V): 3; Mounting Technology: Surface Mount; Code_JEDEC: MO-153; ComponentLink1Description: Datasheet; ComponentLink1URL: http://www.ti.com/general/docs/lit/getliterature.tsp?genericPartNumber=TPS54372-Q1&fileType=pdf; ComponentLink2Description: Package Specification; ComponentLink2URL: http://www.ti.com/lit/ml/mhts001g/mhts001g.pdf; ComponentLink3Description: URL Link1; ComponentLink3URL: Samples URL:http://www.ti.com/product/tps54611#samples
footprint PWP20-3005X2005TP_N (TSOP, 20-Leads, Body 6.5x4.4mm, Pitch 0.65mm, Thermal Pad 3.7x2.4 mm, IPC Medium Density)
footprint PWP20-3005X2005TP_L (TSOP, 20-Leads, Body 6.5x4.4mm, Pitch 0.65mm, Thermal Pad 3.7x2.4 mm, IPC High Density)
footprint PWP20-3005X2005TP_M (TSOP, 20-Leads, Body 6.5x4.4mm, Pitch 0.65mm, Thermal Pad 3.7x2.4 mm, IPC Low Density)
pins: 1 AGND (power) "Analog ground. Return for compensation network/output divider, slow-start capacitor, VBIAS capacitor and RT resistor. Connect the PowerPAD connection to AGND.", 2 VSENSE (in) "Error amplifier inverting input. Connect to output voltage compensation network/output divider.", 3 COMP "Error amplifier output. Connect the frequency compensation network from COMP to VSENSE.", 4 STATUS (hiz) "Open drain output. Asserted low when VIN < UVLO, VBIAS and internal reference are not settled or the internal shutdown signal is active. Otherwise, STATUS is high.", 5 BOOT "Bootstrap output. 0.022-µF to 0.1-µF low-ESR capacitor connected from BOOT to PH generates floating drive for the high-side FET driver.", 6 PH (power) "Phase input/output. Junction of the internal high-side and low-side power MOSFETs, and output inductor.", 7 PH (power) "Phase input/output. Junction of the internal high-side and low-side power MOSFETs, and output inductor.", 8 PH (power) "Phase input/output. Junction of the internal high-side and low-side power MOSFETs, and output inductor.", 9 PH (power) "Phase input/output. Junction of the internal high-side and low-side power MOSFETs, and output inductor.", 10 PH (power) "Phase input/output. Junction of the internal high-side and low-side power MOSFETs, and output inductor.", 11 PGND (power) "Power ground. High current return for the low-side driver and power MOSFET. Connect PGND with large copper areas to the input and output supply returns and negative terminals of the input and output capacitors. A single (See Datasheet)", 12 PGND (power) "Power ground. High current return for the low-side driver and power MOSFET. Connect PGND with large copper areas to the input and output supply returns and negative terminals of the input and output capacitors. A single (See Datasheet)", 13 PGND (power) "Power ground. High current return for the low-side driver and power MOSFET. Connect PGND with large copper areas to the input and output supply returns and negative terminals of the input and output capacitors. A single (See Datasheet)", 14 VIN (power) "Input supply for the power MOSFET switches and internal bias regulator. Bypass VIN pins to PGND pins close to device package with a high-quality, low-ESR 10-µF ceramic capacitor.", 15 VIN (power) "Input supply for the power MOSFET switches and internal bias regulator. Bypass VIN pins to PGND pins close to device package with a high-quality, low-ESR 10-µF ceramic capacitor.", 16 VIN (power) "Input supply for the power MOSFET switches and internal bias regulator. Bypass VIN pins to PGND pins close to device package with a high-quality, low-ESR 10-µF ceramic capacitor.", 17 VBIAS (out) "Internal bias regulator output. Supplies regulated voltage to internal circuitry. Bypass VBIAS pin to AGND pin with a high quality, low-ESR 0.1-µF to 1.0-µF ceramic capacitor.", 18 REFIN (in) "External reference input. High impedance input to slow-start and error amplifier circuits.", 19 ENA (in) "Enable input. Logic high enables oscillator, PWM control and MOSFET driver circuits. Logic low disables operation and places device in a low quiescent current state.", 20 RT "Frequency setting resistor input. Connect a resistor from RT to AGND to set the switching frequency, fs.", 21 PP (power) "Exposed Thermal Pad."

## TPS54373PWP
designator U?
Buck Step Down Regulator with 3 to 6 V Input and 0.9 to 3.3 V Output, -40 to 85 degC, 20-Pin HTSSOP (PWP), Green (RoHS & no Sb/Br); Manufacturer: Texas Instruments; PartNumber: TPS54373PWP; Duty Cycle(Max)(%): 90; Iout(Max)(A): 3; Iq(Typ)(mA): 6.2; Rating: Catalog; Regulated Outputs(#): 1; SubFamily: Step-Down Regulator; Switch Current Limit(Typ)(A): 4; Synchronous Rectification: TRUE; Vin(Max)(V): 6; Vout(Max)(V): 3.3; Vout(Min)(V): 0.9; DatasheetVersion: SLVS455B; PackageVersion: revI, May-2011; PackageReference: PWP20-3005X2005TP; PackageDescription: 20-Pin PowerPAD Plastic Small Outline 6.5 x 4.4 mm Body ,0.65 mm Pitch, Exposed Pad; Supplier 1: Digi-Key; Supplier Part Number 1: 296-14327-5-ND; Eco-Plan: Green (RoHS & no Sb/Br); Topology: Buck; Vin(Min)(V): 3; Mounting Technology: Surface Mount; Code_JEDEC: MO-153; ComponentLink1Description: Datasheet; ComponentLink1URL: http://www.ti.com/general/docs/lit/getliterature.tsp?genericPartNumber=TPS54373&fileType=pdf; ComponentLink2Description: Package Specification; ComponentLink2URL: http://www.ti.com/lit/ml/mhts001g/mhts001g.pdf; ComponentLink3Description: URL Link1; ComponentLink3URL: Samples URL:http://www.ti.com/product/tps54373#samples
footprint PWP20-3005X2005TP_N (TSOP, 20-Leads, Body 6.5x4.4mm, Pitch 0.65mm, Thermal Pad 3.7x2.4 mm, IPC Medium Density)
footprint PWP20-3005X2005TP_L (TSOP, 20-Leads, Body 6.5x4.4mm, Pitch 0.65mm, Thermal Pad 3.7x2.4 mm, IPC High Density)
footprint PWP20-3005X2005TP_M (TSOP, 20-Leads, Body 6.5x4.4mm, Pitch 0.65mm, Thermal Pad 3.7x2.4 mm, IPC Low Density)
pins: 1 AGND (power) "Analog ground. Return for compensation network/output divider, slow-start capacitor, VBIAS capacitor, RT resistor and SYNC pin. Connect PowerPAD to AGND.", 2 VSENSE (in) "Error amplifier inverting input. Connect to output voltage through compensation network/output divider.", 3 COMP "Error amplifier output. Connect frequency compensation network from COMP to VSENSE", 4 PWRGD (oc) "Power-good open-drain output. High when VSENSE >= 90% Vref, otherwise PWRGD is low. Note that output is low when SS/ENA is low, or the internal shutdown signal is active.", 5 BOOT "Bootstrap output. 0.022-uF to 0.1-uF low-ESR capacitor connected from BOOT to PH generates floating drive for the high-side FET driver.", 6 PH (power) "Phase output. Junction of the internal high-side and low-side power MOSFETs, and output inductor.", 7 PH (power) "Phase output. Junction of the internal high-side and low-side power MOSFETs, and output inductor.", 8 PH (power) "Phase output. Junction of the internal high-side and low-side power MOSFETs, and output inductor.", 9 PH (power) "Phase output. Junction of the internal high-side and low-side power MOSFETs, and output inductor.", 10 PH (power) "Phase output. Junction of the internal high-side and low-side power MOSFETs, and output inductor.", 11 PGND (power) "Power ground. High current return for the low-side driver and power MOSFET. Connect PGND with large copper areas to the input and output supply returns, and negative terminals of the input and output capacitors. A (See Datasheet)", 12 PGND (power) "Power ground. High current return for the low-side driver and power MOSFET. Connect PGND with large copper areas to the input and output supply returns, and negative terminals of the input and output capacitors. A (See Datasheet)", 13 PGND (power) "Power ground. High current return for the low-side driver and power MOSFET. Connect PGND with large copper areas to the input and output supply returns, and negative terminals of the input and output capacitors. A (See Datasheet)", 14 VIN (power) "Input supply for the power MOSFET switches and internal bias regulator. Bypass VIN pins to PGND pins close to device package with a high quality, low-ESR 10-uF ceramic capacitor.", 15 VIN (power) "Input supply for the power MOSFET switches and internal bias regulator. Bypass VIN pins to PGND pins close to device package with a high quality, low-ESR 10-uF ceramic capacitor.", 16 VIN (power) "Input supply for the power MOSFET switches and internal bias regulator. Bypass VIN pins to PGND pins close to device package with a high quality, low-ESR 10-uF ceramic capacitor.", 17 VBIAS (out) "Internal bias regulator output. Supplies regulated voltage to internal circuitry. Bypass VBIAS pin to AGND pin with a high quality, low-ESR 0.1-uF to 1.0-uF ceramic capacitor.", 18 SS/ENA (in) "Slow-start/enable input/output. Dual function pin which provides logic input to enable/disable device operation and capacitor input to externally set the start-up time.", 19 SYNC (in) "Synchronization input. Dual function pin which provides logic input to synchronize to an external oscillator or pin select between two internally set switching frequencies. When used to synchronize to an external signal, a (See Datasheet)", 20 RT "Frequency setting resistor input. Connect a resistor from RT to AGND to set the switching frequency. When using the SYNC pin, set the RT value for a frequency at or slightly lower than the external oscillator frequency.", 21 TP (power) "Exposed Thermal Pad"

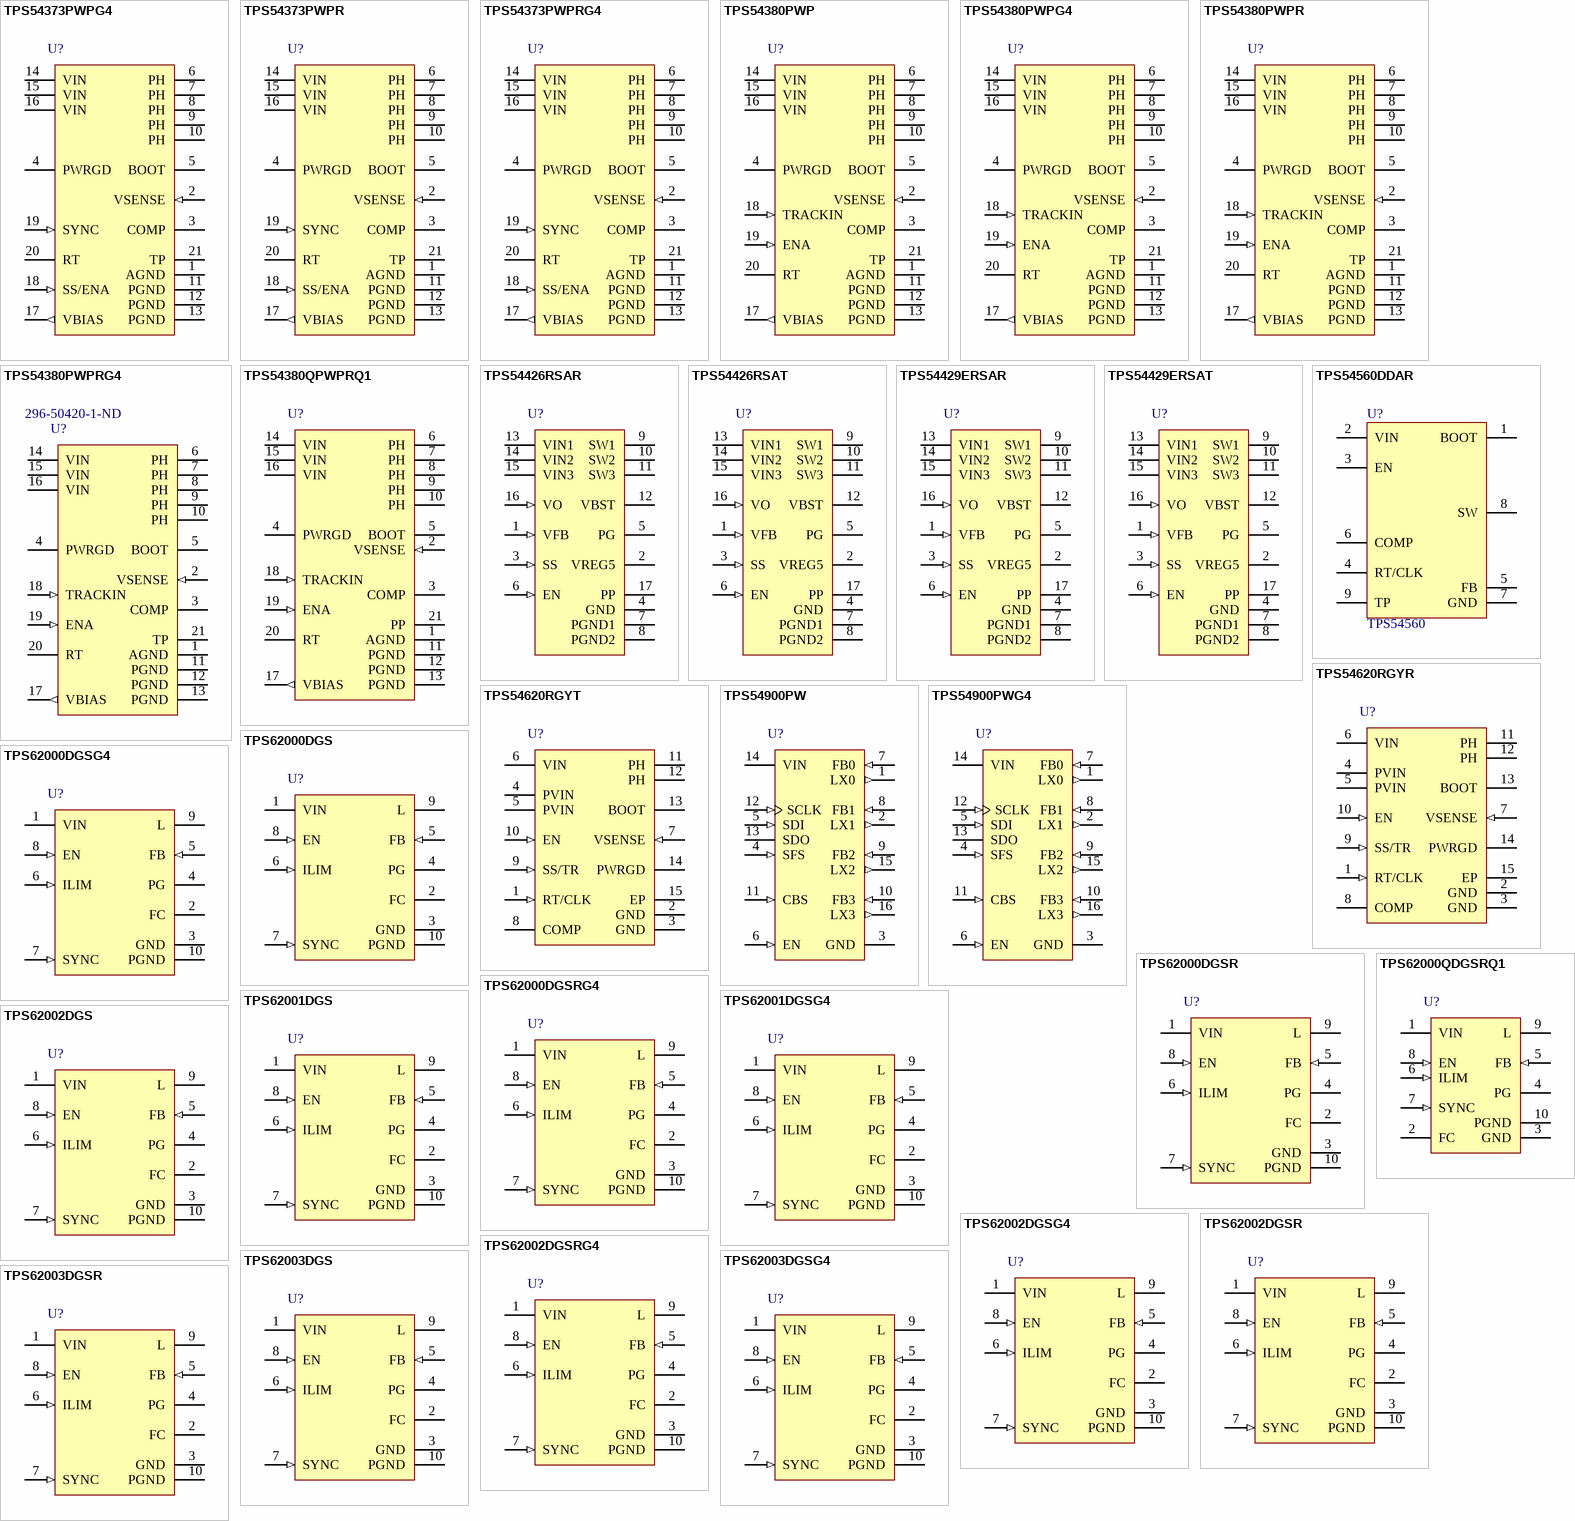
[diagram p6: symbols TPS54373PWPG4 to TPS62003DGSR]